# EAGLE library part CP2104 (library Naze32Lib)
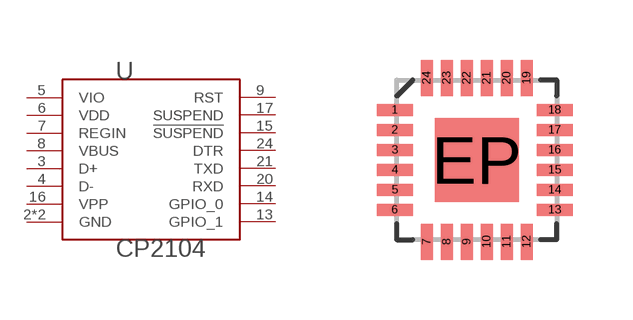
[diagram p4: symbol with the pads of QFN-24_ALT2; footprint QFN-24_ALT2]

Designator prefix U

## CP2104SMT  [QFN-24_ALT2]
2  GND
3  D+
4  D-
5  VIO
6  VDD
7  REGIN
8  VBUS
9  RST
13  GPIO_1
14  GPIO_0
15  !SUSPEND
16  VPP
17  SUSPEND
20  RXD
21  TXD
24  DTR
EP  GND

## Footprint QFN-24_ALT2 (pad centres in mm)
24-pin QFN with Exposed Thermal pad Parts that use this package: A6282 Last modified: 8/20/10 ***UNPROVEN***
smd 0.9 x 0.3: 1 -2.05,1.25; 2 -2.05,0.75; 3 -2.05,0.25; 4 -2.05,-0.25; 5 -2.05,-0.75; 6 -2.05,-1.25; 13 1.95,-1.25; 14 1.95,-0.75; 15 1.95,-0.25; 16 1.95,0.25; 17 1.95,0.75; 18 1.95,1.25
smd 0.3 x 0.9: 7 -1.25,-2.05; 8 -0.75,-2.05; 9 -0.25,-2.05; 10 0.25,-2.05; 11 0.75,-2.05; 12 1.25,-2.05; 19 1.25,2.05; 20 0.75,2.05; 21 0.25,2.05; 22 -0.25,2.05; 23 -0.75,2.05; 24 -1.25,2.05
smd 2.1 x 2.1: EP 0,0